# Altium footprint library maj.PcbLib: 4 footprints
Each footprint in its own frame and in the unit in brackets; x right, y up, seen from the top. Pads: shape width x height; smd on the part's side, far side on the other; paste and mask are expansions set on the pad; w line width, h text height; cw(c..) or ccw(c..) is an arc to the next point about the centre after c.
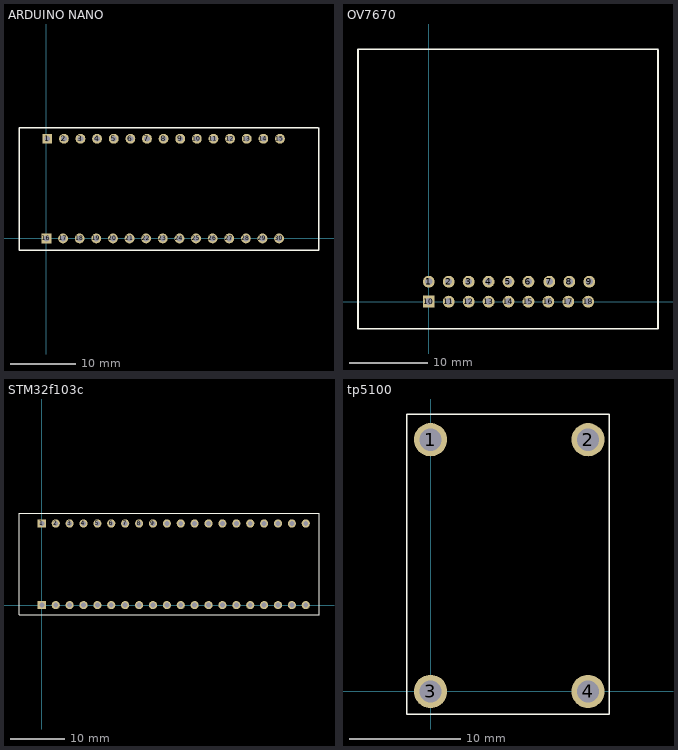
[diagram p0: the footprints below, top view; thin cyan lines are the x and y axes]

## ARDUINO NANO [mm]
height 0.5
pads (30):
  rect 1.5x1.5 hole 0.9: 1(0.127,15.24) 16(0,0)
  round 1.5 hole 0.9: 2(2.667,15.24) 3(5.207,15.24) 4(7.747,15.24) 5(10.287,15.24) 6(12.827,15.24) 7(15.367,15.24) 8(17.907,15.24) 10(22.987,15.24) 11(25.527,15.24) 12(28.067,15.24) 13(30.607,15.24) 14(33.147,15.24) 15(35.687,15.24) 17(2.54,0) 18(5.08,0) 19(7.62,0) 20(10.16,0) 21(12.7,0) 22(15.24,0) 23(17.78,0) 25(22.86,0) 26(25.4,0) 27(27.94,0) 28(30.48,0) 29(33.02,0) 30(35.56,0)
  oval 1.51x1.5 hole 0.9: 9(20.447,15.24) 24(20.32,0)
Top Overlay:
  lines w0.2: 41.529,16.894 -4.191,16.894 -4.191,-1.778 41.656,-1.778 41.656,16.894
3D body "Arduino Nano.STEP": height 15.1, standoff -3.5, extent -3.693,-1.38 41.307,16.62

## OV7670 [mm]
height 0.5
pads (18):
  round 1.5 hole 0.9: 1(0,2.54) 2(2.54,2.54) 3(5.08,2.54) 4(7.62,2.54) 5(10.16,2.54) 6(12.7,2.54) 7(15.367,2.54) 8(17.907,2.54) 9(20.447,2.54) 11(2.54,0) 12(5.08,0) 13(7.62,0) 14(10.16,0) 15(12.7,0) 16(15.24,0) 17(17.78,0)
  rect 1.5x1.5 hole 0.9: 10(0,0)
  oval 1.51x1.5 hole 0.9: 18(20.32,0)
Top Overlay:
  lines w0.2: 29.21,32.004 29.21,-3.429 -9.017,-3.429 -9.017,32.131 29.21,32.131
3D body "5-146253-3.stp": height 10.46, standoff -3.08, extent 14.173,-1.168 21.387,3.709
3D body "5-146253-3.stp": height 10.46, standoff -3.08, extent 6.553,-1.168 13.767,3.709
3D body "5-146253-3.stp": height 10.46, standoff -3.08, extent -1.041,-1.143 6.172,3.734
3D body: height 7.3, standoff 7.1, extent -9.144,-3.619 29.21,32.194
3D body: height 10, standoff 7.1, extent 3.874,8.477 15.939,20.479
3D body: height 21.1, standoff 7.1, extent 3.906,8.478 15.906,20.478
3D body: height 21.2, standoff 7.2, extent 5.779,10.227 13.779,18.221

## STM32f103c [mm]
height 0.5
pads (40):
  rect 1.5x1.5 hole 0.9: 1(0,15) 21(0,0)
  round 1.5 hole 0.9: 2(2.553,15) 3(5.105,15) 4(7.658,15) 5(10.211,15) 6(12.763,15) 7(15.316,15) 8(17.868,15) 10(22.974,15) 11(25.526,15) 12(28.079,15) 13(30.632,15) 14(33.184,15) 15(35.737,15) 16(38.289,15) 17(40.842,15) 18(43.395,15) 19(45.947,15) 20(48.5,15) 22(2.553,0) 23(5.105,0) 25(10.211,0) 26(12.763,0) 27(15.316,0) 28(17.868,0) 29(20.421,0) 30(22.974,0) 31(25.526,0) 32(28.079,0) 33(30.632,0) 34(33.184,0) 35(35.737,0) 36(38.289,0) 37(40.842,0) 38(43.395,0) 39(45.947,0) 40(48.5,0)
  oval 1.51x1.5 hole 0.9: 9(20.426,15) 24(7.663,0)
Top Overlay:
  lines w0.2: -4.191,-1.778 -4.191,16.894 50.927,16.894 50.927,-1.778 -4.191,-1.778
3D body "STM32_Blue_Pill v1.f3d.__gcx3d__.stp": height 9.4, standoff -3.85, extent -3.683,-3.396 50.247,19.144

## tp5100 [mm]
height 0.5
pads (4):
  round 3 hole 2: 1(0,22.7) 2(14.2,22.7) 3(0,0) 4(14.2,0)
Top Overlay:
  lines w0.127: -2.159,-2.032 -2.159,25.019 16.129,25.019 16.129,-2.032 -2.159,-2.032
3D body: height 1.3, standoff 1, extent 4.794,2.477 9.176,6.414
3D body: height 1.3, standoff 1, extent 0.318,10.033 9.906,19.558
3D body: height 1, standoff 0.5, extent -2.159,-2.032 16.129,25.019
3D body: height 1.1, standoff 0, extent -1.488,-1.497 1.5,1.497
3D body: height 1.1, standoff 0, extent 12.609,-1.497 15.597,1.497
3D body: height 1.1, standoff 0, extent 12.609,21.236 15.597,24.23
3D body: height 1.1, standoff 0, extent -1.488,21.236 1.5,24.23